# Altium schematic symbol library RS12L.SchLib: 1 symbol
Pins are listed as number, name and electrical type; pins without a type are passive.

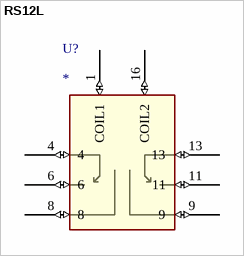
[diagram p0: symbol RS12L]

## RS12L
designator U?
footprint RS-12
pins: 1 COIL1 (io), 4 (io), 6 (io), 8 (io), 9 (io), 11 (io), 13 (io), 16 COIL2 (io)